# EAGLE library part SX1272 (library IC_Wireless-RF)
SX1272/73 - 860 MHz to 1020 MHz Low Power Long Range Transceiver Datasheet <https://semtech.my.salesforce.com/sfc/p/#E0000000JelG/a/440000001NCE/v_VBhk1IolDgxwwnOpcS_vTFxPfSEPQbuneK3mWsXlU> Product Page <https://www.semtech.com/products/wireless-rf/lora-core/sx1272>
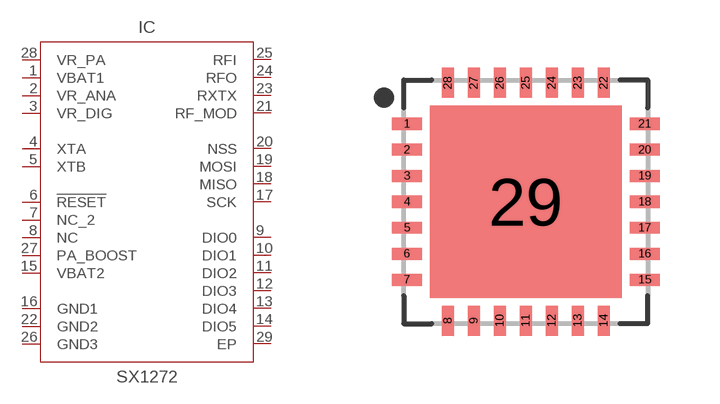
[diagram p6: symbol with the pads of QFN65P600X600X100-29T480; footprint QFN65P600X600X100-29T480]

Designator prefix IC

## SX1272 (CATEGORY: IC_Wireless-RF; DESCRIPTION: IC RF TXRX 802.15.4 28VQFN; FREQUENCY: 860 - 1020 MHz; MANUFACTURER: Semtech; MPN: SX1272IMLTRT; OPERATING_TEMP: -40°C to 85°C; PART_STATUS: Active; SERIES: SX1272; SUB-CATEGORY: Transceiver; TYPE: LoRa Core™; VALUE: SX1272)  [QFN65P600X600X100-29T480]
1  VBAT1  pwr
2  VR_ANA  pwr
3  VR_DIG  pwr
4  XTA
5  XTB
6  !RESET!
7  NC_2  nc
8  NC  nc
9  DIO0
10  DIO1
11  DIO2
12  DIO3
13  DIO4
14  DIO5
15  VBAT2  pwr
16  GND1  pwr
17  SCK  in
18  MISO  out
19  MOSI  in
20  NSS  in
21  RF_MOD  out
22  GND2  pwr
23  RXTX  out
24  RFO  out
25  RFI  in
26  GND3  pwr
27  PA_BOOST  out
28  VR_PA  out
29  EP  pwr

## Footprint QFN65P600X600X100-29T480 (pad centres in mm)
28-QFN, 0.65 mm pitch, 6.00 X 6.00 X 1.00 mm body, 4.80 X 4.80 mm thermal pad 28-pin QFN package with 0.65 mm pitch with body size 6.00 X 6.00 X 1.00 mm and thermal pad size 4.80 X 4.80 mm
smd 0.75 x 0.3: 1 -2.975,1.95; 2 -2.975,1.3; 3 -2.975,0.65; 4 -2.975,0; 5 -2.975,-0.65; 6 -2.975,-1.3; 7 -2.975,-1.95; 15 2.975,-1.95; 16 2.975,-1.3; 17 2.975,-0.65; 18 2.975,0; 19 2.975,0.65; 20 2.975,1.3; 21 2.975,1.95
smd 0.3 x 0.75: 8 -1.95,-2.975; 9 -1.3,-2.975; 10 -0.65,-2.975; 11 0,-2.975; 12 0.65,-2.975; 13 1.3,-2.975; 14 1.95,-2.975; 22 1.95,2.975; 23 1.3,2.975; 24 0.65,2.975; 25 0,2.975; 26 -0.65,2.975; 27 -1.3,2.975; 28 -1.95,2.975
smd 4.8 x 4.8: 29 0,0